# Altium schematic symbol library test_grabber.SchLib: 1 symbol
Pins are listed as number, name and electrical type; pins without a type are passive.

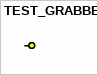
[diagram p0: symbol TEST_GRABBER]

## TEST_GRABBER
designator TP?  (no BOM)
EMBEDDED TEST POINT FOR SALEAE TEST CLIPS
pins: 1